# Altium schematic symbol library Mini-USB-B5F.SchLib: 1 symbol
Pins are listed as number, name and electrical type; pins without a type are passive.

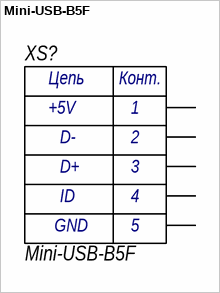
[diagram p0: symbol Mini-USB-B5F]

## Mini-USB-B5F
designator XS?
pins: 1, 2, 3, 4, 5
text: Цепь; Конт.; +5V; D-; D+; ID; GND